# Altium schematic symbol library TLV75533PDRVR.SchLib: 1 symbol
Pins are listed as number, name and electrical type; pins without a type are passive.

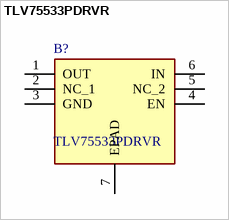
[diagram p0: symbol TLV75533PDRVR]

## TLV75533PDRVR
designator B?
500-mA low-IQ small-size low-dropout (LDO) regulator; Manufacturer_Name: Texas Instruments; Geometry.Height: 0.8mm; Manufacturer_Part_Number: TLV75533PDRVR; Mouser Part Number: 595-TLV75533PDRVR; Mouser Price/Stock: https://www.mouser.co.uk/ProductDetail/Texas-Instruments/TLV75533PDRVR?qs=lc2O%252BfHJPVbmKlktYGVy6A%3D%3D; Arrow Part Number: TLV75533PDRVR; Arrow Price/Stock: https://www.arrow.com/en/products/tlv75533pdrvr/texas-instruments?utm_currency=USD&region=nac; Datasheet Link: http://www.ti.com/lit/gpn/tlv755p
footprint SON65P200X200X80-7N
pins: 1 OUT, 2 NC_1, 3 GND, 4 EN, 5 NC_2, 6 IN, 7 EPAD